# Altium footprint library COMBICON PT-5mm.PcbLib: 2 footprints
Each footprint in its own frame and in the unit in brackets; x right, y up, seen from the top. Pads: shape width x height; smd on the part's side, far side on the other; paste and mask are expansions set on the pad; w line width, h text height; cw(c..) or ccw(c..) is an arc to the next point about the centre after c.
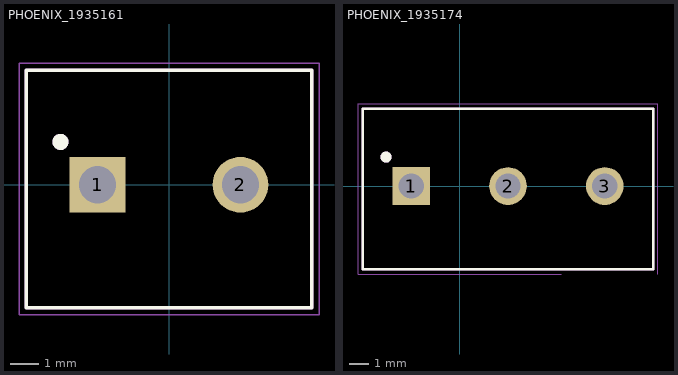
[diagram p0: the footprints below, top view; thin cyan lines are the x and y axes]

## PHOENIX_1935161 [mm]
pads (2):
  rect 1.95x1.95 hole 1.3: 1(-2.5,0)
  round 1.95 hole 1.3: 2(2.5,0)
Top Overlay:
  circle w0.28: c-3.8,1.5 r0.14
  lines w0.127: -5,-4.3 -5,4 5,4 5,-4.3 -5,-4.3
Mechanical 13:
  circle w0.28: c-3.8,1.5 r0.14
  lines w0.127: -5,-4.3 5,-4.3 5,4 -5,4 -5,-4.3
  text "VALUE" at -5.093,-6.366 h1.27
  text "NAME" at -5.087,5.087 h1.27
Mechanical 15:
  lines w0.05: -5.25,-4.55 -5.25,4.25 5.25,4.25 5.25,-4.55 -5.25,-4.55
3D body "1935161--3DModel-STEP-56544.STEP": height 11.5, standoff -3.4, extent -5.08,-5.008 5.32,3.992

## PHOENIX_1935174 [mm]
pads (3):
  rect 1.95x1.95 hole 1.3: 1(-2.5,0)
  round 1.95 hole 1.3: 2(2.5,0) 3(7.5,0)
Top Overlay:
  circle w0.28: c-3.8,1.5 r0.14
  lines w0.127: 0,-4.3 10,-4.3 10,4 0,4 ; 5,-4.3 -5,-4.3 -5,4 5,4
Mechanical 13:
  circle w0.28: c-3.8,1.5 r0.14
  lines w0.127: 0,-4.3 10,-4.3 10,4 0,4 ; 5,-4.3 -5,-4.3 -5,4 5,4
Mechanical 15:
  lines w0.05: -0.25,4.25 10.25,4.25 10.25,-4.55 ; 5.25,-4.55 -5.25,-4.55 -5.25,4.25 5.25,4.25
3D body "pxc_1935174_04_PT-1-5-3-5-0-H_3D.stp": height 11.41, standoff -3.49, extent -4.991,-5.063 10.579,3.937